# Altium schematic symbol library Schlib1.SchLib: 7 symbols
Pins are listed as number, name and electrical type; pins without a type are passive.

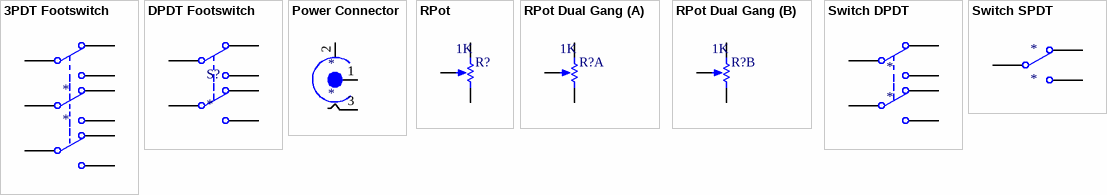
[diagram p0: symbols 3PDT Footswitch to Switch SPDT]

## 3PDT Footswitch
designator *
footprint 3PDT FOOTSWITCH - Big holes
pins: 1a NC1, 1b NC2, 1c NC3, 2a COMMON1, 2b COMMON2, 2c COMMON3, 3a NO1, 3b NO2, 3c NO3

## DPDT Footswitch
designator S?
footprint DPDT Footswitch
pins: 1a NC1, 1b NC2, 2a COMMON1, 2b COMMON2, 3a NO1, 3b NO2

## Power Connector
designator *
footprint Power Connector
pins: 1, 2, 3

## RPot
designator R?  value 1K
Potentiometer; Sim Note: Enter the Resistance value and the set point into parameter fields.; Set Position: 0.5; Published: 8-Jun-2000; LatestRevisionDate: 17-Jul-2002; LatestRevisionNote: Re-released for DXP Platform.; PackageReference: VR5; Publisher: Altium Limited; PackageDescription: Variable Resistor, Thru-Hole; 3 Leads
simulation model POT (Potentiometer)
footprint POT
pins: 1 BOT, 2 TAP, 3 TOP
1 alternate drawing of the same symbol

## RPot Dual Gang
designator R?  value 1K
Potentiometer; Sim Note: Enter the Resistance value and the set point into parameter fields.; Set Position: 0.5; Published: 8-Jun-2000; LatestRevisionDate: 17-Jul-2002; LatestRevisionNote: Re-released for DXP Platform.; PackageReference: VR5; Publisher: Altium Limited; PackageDescription: Variable Resistor, Thru-Hole; 3 Leads
simulation model POT (Potentiometer)
footprint POT DUAL
part A pins: 1 BOT, 2 TAP, 3 TOP
part B pins: 4 BOT, 5 TAP, 6 TOP
1 alternate drawing of the same symbol

## Switch DPDT
designator *
footprint SWITCH DPDT 5mm
pins: 1 NC1, 2 NC2, 3 COMMON1, 4 COMMON2, 5 NO1, 6 NO2

## Switch SPDT
designator *
footprint SWITCH SPDT 5mm
pins: 1 NC1, 2 COMMON1, 3 NO1